# Altium footprint library 5015681007.PcbLib: 1 footprints
Each footprint in its own frame and in the unit in brackets; x right, y up, seen from the top. Pads: shape width x height; smd on the part's side, far side on the other; paste and mask are expansions set on the pad; w line width, h text height; cw(c..) or ccw(c..) is an arc to the next point about the centre after c.
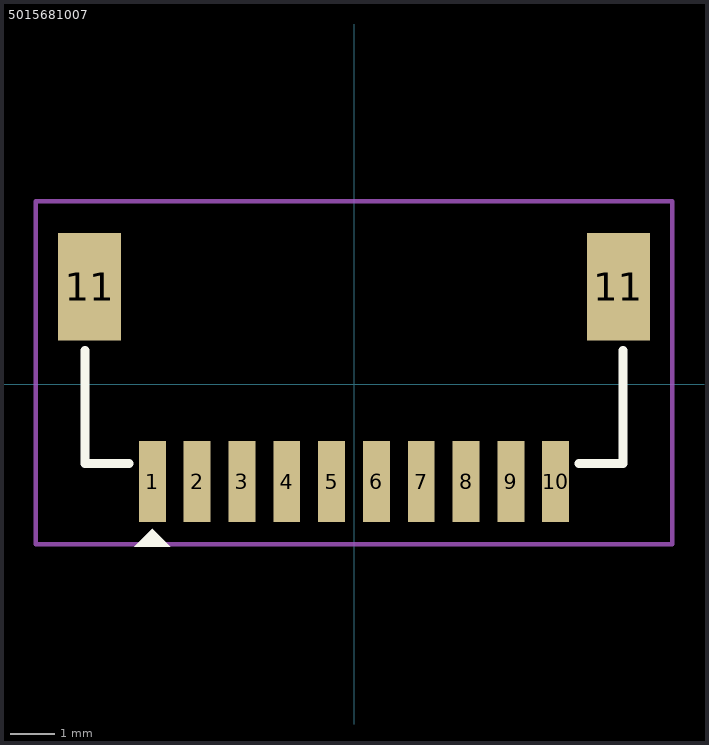
[diagram p0: the footprint, top view; thin cyan lines are the x and y axes]

## 5015681007 [mm]
pads (12):
  rect 0.6x1.8 smd: 1(-4.5,-2.175) 2(-3.5,-2.175) 3(-2.5,-2.175) 4(-1.5,-2.175) 5(-0.5,-2.175) 6(0.5,-2.175) 7(1.5,-2.175) 8(2.5,-2.175) 9(3.5,-2.175) 10(4.5,-2.175)
  rect 1.4x2.4 smd: 11(-5.9,2.175) 11(5.9,2.175)
Top Overlay:
  region: -4.1,-3.625 -4.9,-3.625 -4.5,-3.225
  lines w0.2: -6,0.75 -6,-1.775 -5.025,-1.775 ; 5.025,-1.775 6,-1.775 6,0.75
Top Courtyard:
  lines w0.1: -7.1,3.35 -7.1,4.075 ; -6,4.075 -7.1,4.075 ; -3.5,-3.575 -7.1,-3.575 ; 6,4.075 7.1,4.075 ; 7.1,3.3 7.1,4.075 ; -7.1,-3.575 7.1,-3.575 7.1,4.075 ; -7.1,-3.575 -7.1,4.075 ; -7.1,4.075 7.1,4.075
3D body "5015681007.stp": height 4.8, standoff 0.1, extent -6,-2.325 6,3.575